# EAGLE library part FXL6408UMX (library FXL6408UMX)
FXL6408 Series 3.6 V Open Drain Output Surface Mount Specialty Interface IC
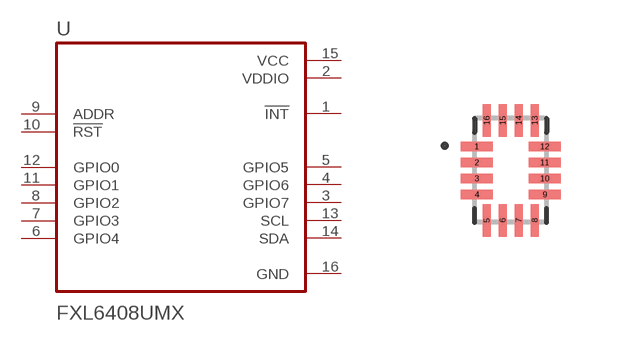
[diagram p0: symbol with the pads of QFN40P260X180X55-16N; footprint QFN40P260X180X55-16N]

Designator prefix U

## FXL6408UMX (Description: I/O Expander 8 I²C 400kHz 16-UMLP _1.8x2.6_; Digi-Key_Part_Number: FXL6408UMXCT-ND; Digi-Key_Purchase_URL: https://www.digikey.com/product-detail/en/on-semiconductor/FXL6408UMX/FXL6408UMXCT-ND/4433013?utm_source=snapeda&utm_medium=aggregator&utm_campaign=symbol; MF: ON Semiconductor; MP: FXL6408UMX; Package: UFQFN-16 Fairchild Semiconductor)  [QFN40P260X180X55-16N]
1  !INT  out
2  VDDIO  pwr
3  GPIO7
4  GPIO6
5  GPIO5
6  GPIO4
7  GPIO3
8  GPIO2
9  ADDR  in
10  !RST  in
11  GPIO1
12  GPIO0
13  SCL
14  SDA
15  VCC  pwr
16  GND  pwr

## Footprint QFN40P260X180X55-16N (pad centres in mm)
smd 0.81 x 0.22: 1 -0.85,0.6; 2 -0.85,0.2; 3 -0.85,-0.2; 4 -0.85,-0.6; 9 0.85,-0.6; 10 0.85,-0.2; 11 0.85,0.2; 12 0.85,0.6
smd 0.22 x 0.81: 5 -0.6,-1.25; 6 -0.2,-1.25; 7 0.2,-1.25; 8 0.6,-1.25; 13 0.6,1.25; 14 0.2,1.25; 15 -0.2,1.25; 16 -0.6,1.25